# Altium schematic symbol library USB Connectors WR-COM.SchLib: 47 symbols (part 2 of 2)
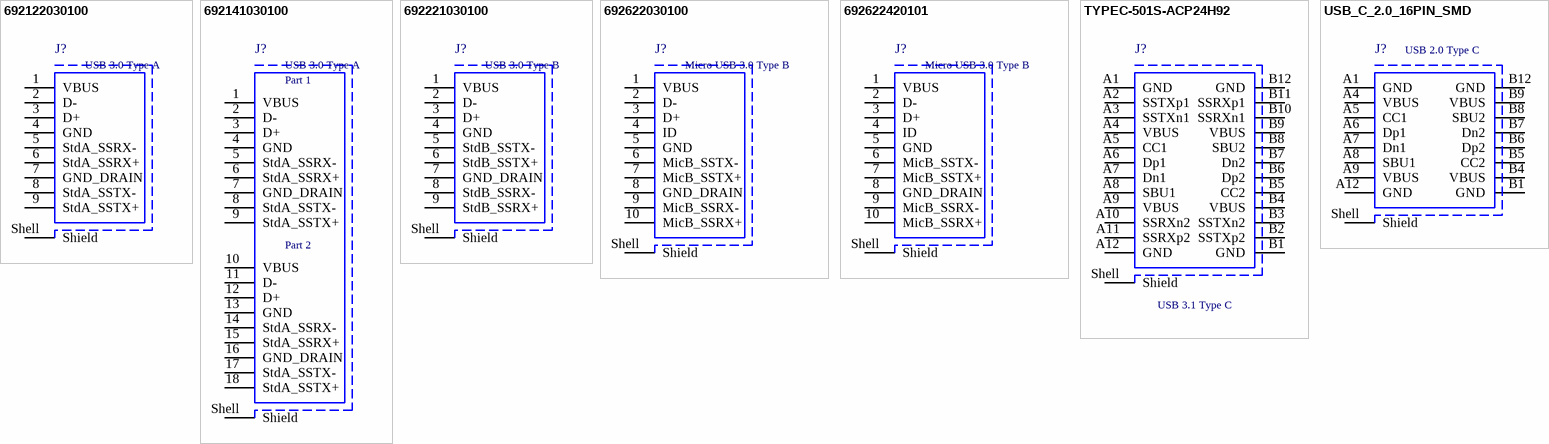
[diagram p2: symbols 692122030100 to USB_C_2.0_16PIN_SMD]

## 692622420101
designator J?, comment Micro USB 3.0 Type B
Micro USB 3.0 Type B Receptacle WR-COM, Vertical, SMT, with Pads and Pegs; Manufacturer: Wurth Elektronik; Manufacturer Part Number: 692622420101; Rated Current: 0.25 A; Contact Resistance: 30 mOhm; Working Voltage: 30 VAC; ComponentLink1Description: Datasheet; ComponentLink1URL: https://katalog.we-online.de/em/datasheet/692622420101.pdf; Published Date: September 2018; Orientation: Vertical; Connector Type: Micro USB 3.0 Type B; Operating Temperature: -30 to 85 degC; Gender: Receptacle; Packaging: Tape and Reel; Supplier 1 URL: https://www.mouser.vn/ProductDetail/Wurth-Elektronik/692622420101?qs=DvsTirrhYfOrDBBYKe6gCg%3D%3D; Supplier 2 URL: N/A; Supplier 3 SN: N/A; Supplier 3 URL: N/A; Value: Micro USB 3.0 Type B; LCSC Part #: N/A; Mount: SMT; Package / Case: N/A; Supplier 1: Mouser; Supplier 1 Part Number: 710-692622420101; Supplier 2: Digi-Key; Supplier 2 Part Number: N/A; Supplier 3: thegioiic; Supplier 3 Part Number: N/A
footprint 692622420101
pins: 1 VBUS, 2 D-, 3 D+, 4 ID, 5 GND, 6 MicB_SSTX-, 7 MicB_SSTX+, 8 GND_DRAIN, 9 MicB_SSRX-, 10 MicB_SSRX+, Shell Shield

## TYPEC-501S-ACP24H92
designator J?, comment USB 3.1 Type C
5A USB 3.1 1 Standing paste 24P Mother -45℃~+85℃ Type-C SMD USB Connectors ROHS; Manufacturer: XUNPU; Manufacturer Part Number: TYPEC-501S-ACP24H92; Gender: Receptacle; Working Voltage: 20 VDC; Contact Resistance: 40 mOhm; Number of Contacts: 16 Contact; Number of Ports: 1 Port; ComponentLink1Description: Datasheet; ComponentLink1URL: https://www.lcsc.com/datasheet/lcsc_datasheet_2202132000_XUNPU-TYPEC-501S-ACP24H92_C2840394.pdf; Published Date: November 2018; Orientation: Vertical; Connector Type: USB 3.1 Type C; Rated Current: 5 A; Operating Temperature: -40 to 105 degC; Packaging: Tape and Reel; Supplier 1 URL: https://www.mouser.vn/ProductDetail/Wurth-Elektronik/632722110112?qs=2WXlatMagcH6zbfYjgLonA%3D%3D; Supplier 2 URL: N/A; Supplier 3 SN: N/A; Supplier 3 URL: N/A; Value: USB 3.1 Type C; LCSC Part #: C2840394; Mount: SMD/SMT; Package / Case: N/A; Supplier 1: Mouser; Supplier 1 Part Number: 710-632722110112; Supplier 2: Digi-Key; Supplier 2 Part Number: N/A; Supplier 3: thegioiic; Supplier 3 Part Number: N/A
footprint 632722110112
pins: A1 GND, A2 SSTXp1, A3 SSTXn1, A4 VBUS, A5 CC1, A6 Dp1, A7 Dn1, A8 SBU1, A9 VBUS, A10 SSRXn2, A11 SSRXp2, A12 GND, B1 GND, B2 SSTXp2, B3 SSTXn2, B4 VBUS, B5 CC2, B6 Dp2, B7 Dn2, B8 SBU2, B9 VBUS, B10 SSRXn1, B11 SSRXp1, B12 GND, Shell Shield

## USB_C_2.0_16PIN_SMD
designator J?, comment USB 2.0 Type C
USB Connectors USB Type C,2.0, Rec,SMT, 0.95mmTH Shell Stakes,G/F,RA,Top Mnt,T&R; Manufacturer: G-Switch; Manufacturer Part Number: GT-USB-7010ASV; Rated Current: 3 A; Gender: Receptacle; Contact Resistance: 30 mOhm; Working Voltage: 48 VDC; Number of Contacts: 16 Contact; Number of Ports: 1 Port; ComponentLink1Description: Datasheet; ComponentLink1URL: https://www.lcsc.com/datasheet/lcsc_datasheet_2303271630_G-Switch-GT-USB-7010ASV_C2988369.pdf; Published Date: September 2018; Orientation: Horizontal; Connector Type: USB 2.0 Type C; Operating Temperature: -40 to 105 degC; Packaging: Tape and Reel; Supplier 1 URL: N/A; Supplier 2 URL: N/A; Supplier 3 SN: N/A; Supplier 3 URL: https://www.thegioiic.com/cong-usb-cai-3-1-type-c-16-chan-thang-dan-smd; Value: USB 2.0 Type C; LCSC Part #: C2988369; Mount: SMD/SMT; Package / Case: N/A; Supplier 1: Mouser; Supplier 1 Part Number: N/A; Supplier 2: Digi-Key; Supplier 2 Part Number: N/A; Supplier 3: thegioiic; Supplier 3 Part Number: N/A
footprint USB_C_2.0_16PIN_SMD
pins: A1 GND, A4 VBUS, A5 CC1, A6 Dp1, A7 Dn1, A8 SBU1, A9 VBUS, A12 GND, B1 GND, B4 VBUS, B5 CC2, B6 Dp2, B7 Dn2, B8 SBU2, B9 VBUS, B12 GND, Shell Shield